# EAGLE library part SN74LVC1G175 (library bschulz)
SN74LVC1G175 - D-Type Flip Flop with Asynchronous Clear, 1 Element Characteristics: VCC: 2 ~ 6V Edge Trigger: Positive Edge Operating Temperature: -40°C to 85°C Digikey: 296-16998-6-ND (SC-70) <https://www.digikey.com/en/products/detail/texas-instruments/SN74LVC1G175DCKR/656526>
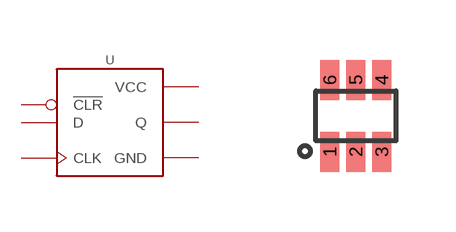
[diagram p184: symbol with the pads of SC-70_6; footprint SC-70_6]

Designator prefix U

## SN74LVC1G175DCK (DIGIKEY: 296-16998-6-ND; DISP: SN74LVC1G175; MF: TI; MPN: SN74LVC1G175DCKR)  [SC-70_6]
1  CLK  in
2  GND  pwr
3  D  in
4  Q  out
5  VCC  pwr
6  !CLR  in

## Footprint SC-70_6 (pad centres in mm)
smd 0.47 x 1: 1 -0.65,-0.9; 2 0,-0.9; 3 0.65,-0.9; 4 0.65,0.9; 5 0,0.9; 6 -0.65,0.9